# Altium schematic symbol library Core429IBaseBoardVerE.SchLib: 34 symbols
Pins are listed as number, name and electrical type; pins without a type are passive.

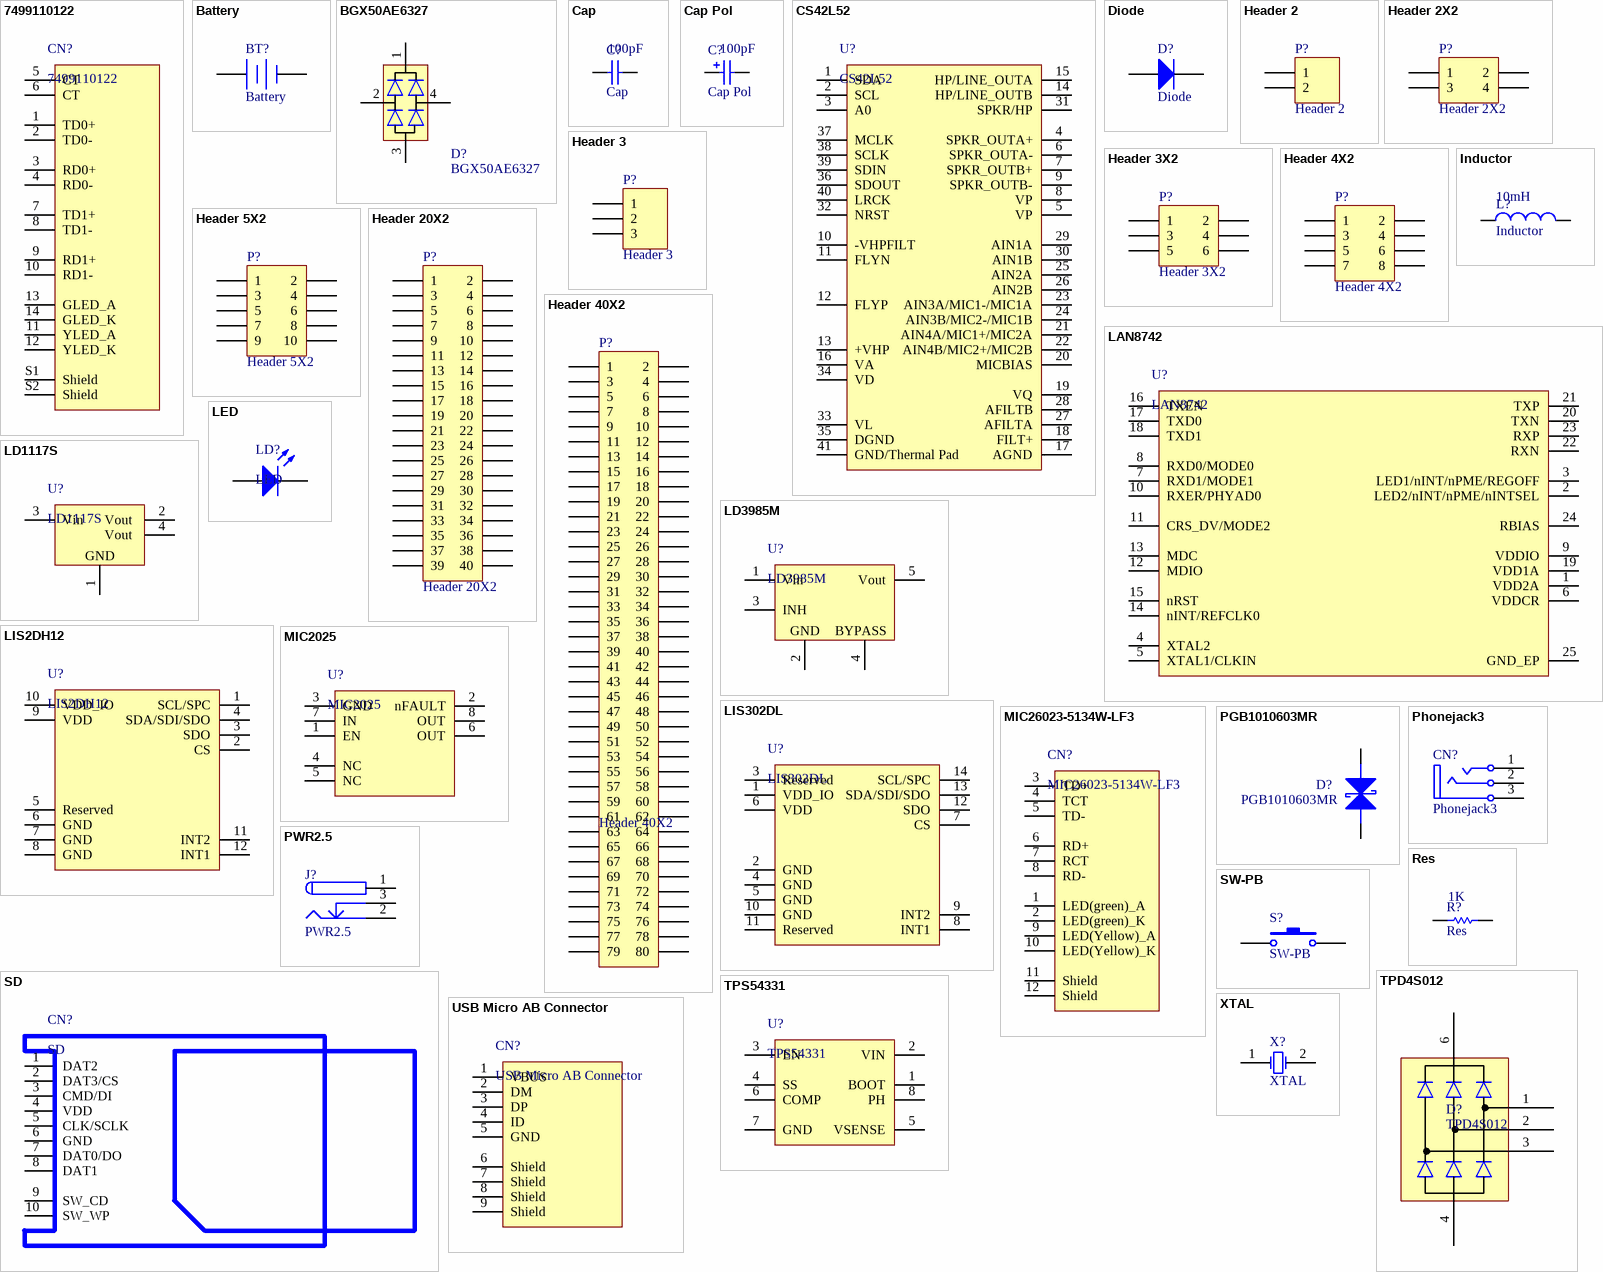
[diagram p0: symbols 7499110122 to XTAL]

## 7499110122
designator CN?
LAN-Transformer WE-RJ45LAN 10/100/1000 BaseT
pins: 1 TD0+, 2 TD0-, 3 RD0+, 4 RD0-, 5 CT, 6 CT, 7 TD1+, 8 TD1-, 9 RD1+, 10 RD1-, 11 YLED_A, 12 YLED_K, 13 GLED_A, 14 GLED_K, S1 Shield, S2 Shield

## Battery
designator BT?
Multicell Battery
pins: 1 +, 2 -

## BGX50AE6327
designator D?
Diode Switching 50V SOT-143
pins: 1, 2, 3, 4

## Cap
designator C?  value 100pF
Capacitor
pins: 1, 2

## Cap Pol
designator C?  value 100pF
Polarized Capacitor
pins: 1, 2
1 alternate drawing of the same symbol

## CS42L52
designator U?
Low-power, Stereo CODEC w/ Headphone & Speaker Amps
pins: 1 SDA, 2 SCL, 3 A0, 4 SPKR_OUTA+, 5 VP, 6 SPKR_OUTA-, 7 SPKR_OUTB+, 8 VP, 9 SPKR_OUTB-, 10 -VHPFILT, 11 FLYN, 12 FLYP, 13 +VHP, 14 HP/LINE_OUTB, 15 HP/LINE_OUTA, 16 VA, 17 AGND, 18 FILT+, 19 VQ, 20 MICBIAS, 21 AIN4A/MIC1+/MIC2A, 22 AIN4B/MIC2+/MIC2B, 23 AIN3A/MIC1-/MIC1A, 24 AIN3B/MIC2-/MIC1B, 25 AIN2A, 26 AIN2B, 27 AFILTA, 28 AFILTB, 29 AIN1A, 30 AIN1B, 31 SPKR/HP, 32 NRST, 33 VL, 34 VD, 35 DGND, 36 SDOUT, 37 MCLK, 38 SCLK, 39 SDIN, 40 LRCK, 41 GND/Thermal Pad

## Diode
designator D?
Default Diode
pins: 1 A, 2 K

## Header 2
designator P?
Header, 2-Pin
pins: 1, 2

## Header 2X2
designator P?
Header, 2-Pin, Dual row
pins: 1, 2, 3, 4

## Header 3
designator P?
Header, 3-Pin
pins: 1, 2, 3

## Header 3X2
designator P?
Header, 3-Pin, Dual row
pins: 1, 2, 3, 4, 5, 6

## Header 4X2
designator P?
Header, 4-Pin, Dual row
pins: 1, 2, 3, 4, 5, 6, 7, 8

## Header 5X2
designator P?
Header, 5-Pin, Dual row
pins: 1, 2, 3, 4, 5, 6, 7, 8, 9, 10

## Header 20X2
designator P?
Header, 20-Pin, Dual row
pins: 1, 2, 3, 4, 5, 6, 7, 8, 9, 10, 11, 12, 13, 14, 15, 16, 17, 18, 19, 20, 21, 22, 23, 24, 25, 26, 27, 28, 29, 30, 31, 32, 33, 34, 35, 36, 37, 38, 39, 40

## Header 40X2
designator P?
Header, 40-Pin, Dual row
pins: 1, 2, 3, 4, 5, 6, 7, 8, 9, 10, 11, 12, 13, 14, 15, 16, 17, 18, 19, 20, 21, 22, 23, 24, 25, 26, 27, 28, 29, 30, 31, 32, 33, 34, 35, 36, 37, 38, 39, 40, 41, 42, 43, 44, 45, 46, 47, 48, 49, 50, 51, 52, 53, 54, 55, 56, 57, 58, 59, 60, 61, 62, 63, 64, 65, 66, 67, 68, 69, 70, 71, 72, 73, 74, 75, 76, 77, 78, 79, 80

## Inductor
designator L?  value 10mH
pins: 1, 2

## LAN8742
designator U?
Small Footprint RMII 10/100 Ethernet Transceiver with HP Auto-MDIX and flexPWR Technology
pins: 1 VDD2A, 2 LED2/nINT/nPME/nINTSEL, 3 LED1/nINT/nPME/REGOFF, 4 XTAL2, 5 XTAL1/CLKIN, 6 VDDCR, 7 RXD1/MODE1, 8 RXD0/MODE0, 9 VDDIO, 10 RXER/PHYAD0, 11 CRS_DV/MODE2, 12 MDIO, 13 MDC, 14 nINT/REFCLK0, 15 nRST, 16 TXEN, 17 TXD0, 18 TXD1, 19 VDD1A, 20 TXN, 21 TXP, 22 RXN, 23 RXP, 24 RBIAS, 25 GND_EP

## LD1117S
designator U?
Adjustable and fixed low drop positive voltage regulator
pins: 1 GND, 2 Vout , 3 Vin, 4 Vout 

## LD3985M
designator U?
Ultra low drop-low noise BiCMOS voltage  regulators low ESR capacitors compatible
pins: 1 Vin, 2 GND, 3 INH, 4 BYPASS, 5 Vout

## LED
designator LD?
Light emitting diode
pins: 1 A, 2 K

## LIS2DH12
designator U?
MEMS digital output motion sensor ultra-low-power high-performance 3-axis "femto" accelerometer
pins: 1 SCL/SPC, 2 CS, 3 SDO, 4 SDA/SDI/SDO, 5 Reserved, 6 GND, 7 GND, 8 GND, 9 VDD, 10 VDD_IO, 11 INT2, 12 INT1

## LIS302DL
designator U?
MEMS motion sensor  3-axis - ± 2g/± 8g smart digital output “piccolo” accelerometer
pins: 1 VDD_IO, 2 GND, 3 Reserved, 4 GND, 5 GND, 6 VDD, 7 CS, 8 INT1, 9 INT2, 10 GND, 11 Reserved, 12 SDO, 13 SDA/SDI/SDO, 14 SCL/SPC

## MIC2025
designator U?
Single-Channel Power Distribution Switch MM8
pins: 1 EN, 2 nFAULT, 3 GND, 4 NC, 5 NC, 6 OUT, 7 IN, 8 OUT

## MIC26023-5134W-LF3
designator CN?
10/100Mbs Lan Ethernet Transformer
pins: 1 LED(green)_A, 2 LED(green)_K, 3 TD+, 4 TCT, 5 TD-, 6 RD+, 7 RCT, 8 RD-, 9 LED(Yellow)_A, 10 LED(Yellow)_K, 11 Shield, 12 Shield

## PGB1010603MR
designator D?
Suppressor ESD 24VDC
pins: 1, 2

## Phonejack3
designator CN?
3.5mm Stereo Jack
pins: 1 T, 2 R, 3 S

## PWR2.5
designator J?
Low Voltage Power Supply Connector
pins: 1, 2, 3

## Res
designator R?  value 1K
Resistor
pins: 1, 2

## SD
designator CN?
SD Card Reader
pins: 1 DAT2, 2 DAT3/CS, 3 CMD/DI, 4 VDD, 5 CLK/SCLK, 6 GND, 7 DAT0/DO, 8 DAT1, 9 SW_CD, 10 SW_WP

## SW-PB
designator S?
Momentary Push Button
pins: 1, 2

## TPD4S012
designator D?
4-Channel ESD Solution for USB-HS/USB OTG/USB Charger Interface
pins: 1, 2, 3, 4, 6

## TPS54331
designator U?
3-A, 28-V Input, Step Down DC-DC Converter With Eco-mode
pins: 1 BOOT, 2 VIN, 3 EN, 4 SS, 5 VSENSE, 6 COMP, 7 GND, 8 PH

## USB Micro AB Connector
designator CN?
Micro-USB connectors meeting USB 2.0 Standard
pins: 1 VBUS, 2 DM, 3 DP, 4 ID, 5 GND, 6 Shield, 7 Shield, 8 Shield, 9 Shield

## XTAL
designator X?
Crystal Oscillator
pins: 1 OSC1, 2 OSC2